# EAGLE library part TLC5940 (library reprap)
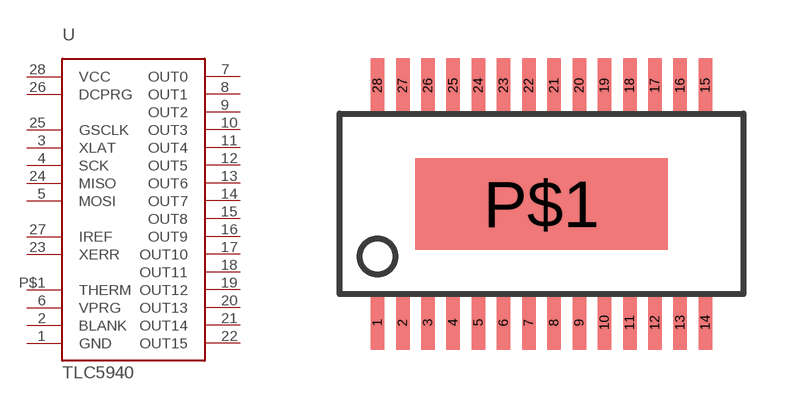
[diagram p19: symbol with the pads of SSOP28DB; footprint SSOP28DB]

Designator prefix -

## TLC5940PWP  [SSOP28DB]
1  GND
2  BLANK
3  XLAT
4  SCK
5  MOSI
6  VPRG
7  OUT0
8  OUT1
9  OUT2
10  OUT3
11  OUT4
12  OUT5
13  OUT6
14  OUT7
15  OUT8
16  OUT9
17  OUT10
18  OUT11
19  OUT12
20  OUT13
21  OUT14
22  OUT15
23  XERR
24  MISO
25  GSCLK
26  DCPRG
27  IREF
28  VCC
P$1  THERM

## Footprint SSOP28DB (pad centres in mm)
Small Shrink Outline Package
smd 0.348 x 1.397: 1 -4.225,-3.056; 2 -3.575,-3.056; 3 -2.925,-3.056; 4 -2.275,-3.056; 5 -1.625,-3.056; 6 -0.975,-3.056; 7 -0.325,-3.056; 8 0.325,-3.056; 9 0.975,-3.056; 10 1.625,-3.056; 11 2.275,-3.056; 12 2.925,-3.056; 13 3.575,-3.056; 14 4.225,-3.056; 15 4.225,3.056; 16 3.575,3.056; 17 2.925,3.056; 18 2.275,3.056; 19 1.625,3.056; 20 0.975,3.056; 21 0.325,3.056; 22 -0.325,3.056; 23 -0.975,3.056; 24 -1.625,3.056; 25 -2.275,3.056; 26 -2.925,3.056; 27 -3.575,3.056; 28 -4.225,3.056
smd 6.5 x 2.35: P$1 0,0